# Altium schematic symbol library Power Module.SchLib: 57 symbols
Pins are listed as number, name and electrical type; pins without a type are passive.

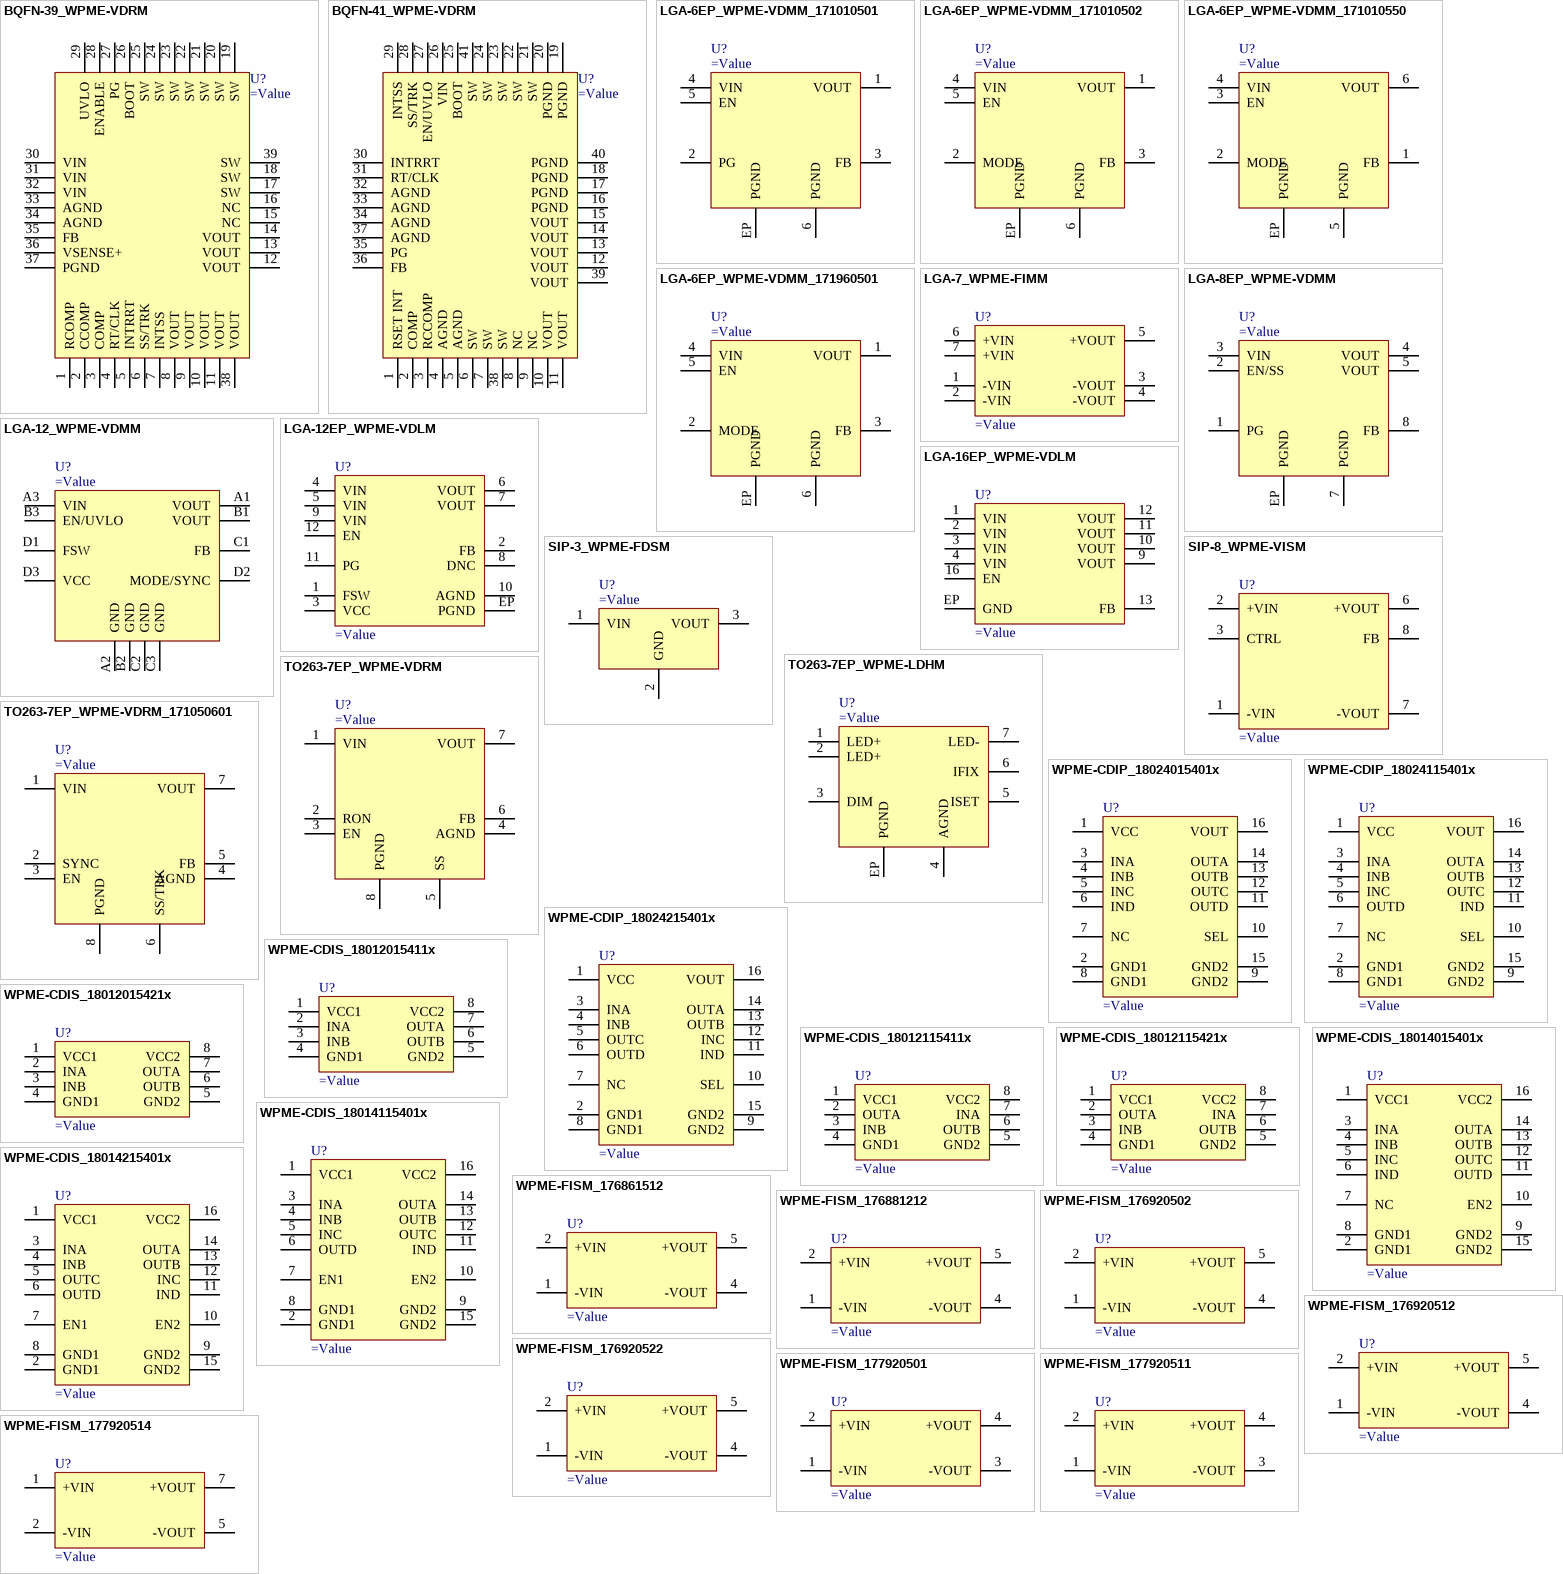
[diagram p0: symbols BQFN-39_WPME-VDRM to WPME-FISM_177920514]

## BQFN-39_WPME-VDRM
designator U?
pins: 1 RCOMP, 2 CCOMP, 3 COMP, 4 RT/CLK, 5 INTRRT, 6 SS/TRK, 7 INTSS, 8 VOUT, 9 VOUT, 10 VOUT, 11 VOUT, 12 VOUT, 13 VOUT, 14 VOUT, 15 NC, 16 NC, 17 SW, 18 SW, 19 SW, 20 SW, 21 SW, 22 SW, 23 SW, 24 SW, 25 SW, 26 BOOT, 27 PG, 28 ENABLE, 29 UVLO, 30 VIN, 31 VIN, 32 VIN, 33 AGND, 34 AGND, 35 FB, 36 VSENSE+, 37 PGND, 38 VOUT, 39 SW

## BQFN-41_WPME-VDRM
designator U?
pins: 1 RSET INT, 2 COMP, 3 RCCOMP, 4 AGND, 5 AGND, 6 SW, 7 SW, 8 NC, 9 NC, 10 VOUT, 11 VOUT, 12 VOUT, 13 VOUT, 14 VOUT, 15 VOUT, 16 PGND, 17 PGND, 18 PGND, 19 PGND, 20 PGND, 21 SW, 22 SW, 23 SW, 24 SW, 25 BOOT, 26 VIN, 27 EN/UVLO, 28 SS/TRK, 29 INTSS, 30 INTRRT, 31 RT/CLK, 32 AGND, 33 AGND, 34 AGND, 35 PG, 36 FB, 37 AGND, 38 SW, 39 VOUT, 40 PGND, 41 SW

## LGA-6EP_WPME-VDMM_171010501
designator U?
pins: 1 VOUT, 2 PG, 3 FB, 4 VIN, 5 EN, 6 PGND, EP PGND

## LGA-6EP_WPME-VDMM_171010502
designator U?
pins: 1 VOUT, 2 MODE, 3 FB, 4 VIN, 5 EN, 6 PGND, EP PGND

## LGA-6EP_WPME-VDMM_171010550
designator U?
pins: 1 FB, 2 MODE, 3 EN, 4 VIN, 5 PGND, 6 VOUT, EP PGND

## LGA-6EP_WPME-VDMM_171960501
designator U?
pins: 1 VOUT, 2 MODE, 3 FB, 4 VIN, 5 EN, 6 PGND, EP PGND

## LGA-7_WPME-FIMM
designator U?
pins: 1 -VIN, 2 -VIN, 3 -VOUT, 4 -VOUT, 5 +VOUT, 6 +VIN, 7 +VIN

## LGA-8EP_WPME-VDMM
designator U?
pins: 1 PG, 2 EN/SS, 3 VIN, 4 VOUT, 5 VOUT, 7 PGND, 8 FB, EP PGND

## LGA-12_WPME-VDMM
designator U?
pins: A1 VOUT, A2 GND, A3 VIN, B1 VOUT, B2 GND, B3 EN/UVLO, C1 FB, C2 GND, C3 GND, D1 FSW, D2 MODE/SYNC, D3 VCC

## LGA-12EP_WPME-VDLM
designator U?
pins: 1 FSW, 2 FB, 3 VCC, 4 VIN, 5 VIN, 6 VOUT, 7 VOUT, 8 DNC, 9 VIN, 10 AGND, 11 PG, 12 EN, EP PGND

## LGA-16EP_WPME-VDLM
designator U?
pins: 1 VIN, 2 VIN, 3 VIN, 4 VIN, 9 VOUT, 10 VOUT, 11 VOUT, 12 VOUT, 13 FB, 16 EN, EP GND

## SIP-3_WPME-FDSM
designator U?
pins: 1 VIN, 2 GND, 3 VOUT

## SIP-8_WPME-VISM
designator U?
pins: 1 -VIN, 2 +VIN, 3 CTRL, 6 +VOUT, 7 -VOUT, 8 FB

## TO263-7EP_WPME-LDHM
designator U?
pins: 1 LED+, 2 LED+, 3 DIM, 4 AGND, 5 ISET, 6 IFIX, 7 LED-, EP PGND

## TO263-7EP_WPME-VDRM
designator U?
pins: 1 VIN, 2 RON, 3 EN, 4 AGND, 5 SS, 6 FB, 7 VOUT, 8 PGND

## TO263-7EP_WPME-VDRM_171050601
designator U?
pins: 1 VIN, 2 SYNC, 3 EN, 4 AGND, 5 FB, 6 SS/TRK, 7 VOUT, 8 PGND

## WPME-CDIP_18024015401x
designator U?
pins: 1 VCC, 2 GND1, 3 INA, 4 INB, 5 INC, 6 IND, 7 NC, 8 GND1, 9 GND2, 10 SEL, 11 OUTD, 12 OUTC, 13 OUTB, 14 OUTA, 15 GND2, 16 VOUT

## WPME-CDIP_18024115401x
designator U?
pins: 1 VCC, 2 GND1, 3 INA, 4 INB, 5 INC, 6 OUTD, 7 NC, 8 GND1, 9 GND2, 10 SEL, 11 IND, 12 OUTC, 13 OUTB, 14 OUTA, 15 GND2, 16 VOUT

## WPME-CDIP_18024215401x
designator U?
pins: 1 VCC, 2 GND1, 3 INA, 4 INB, 5 OUTC, 6 OUTD, 7 NC, 8 GND1, 9 GND2, 10 SEL, 11 IND, 12 INC, 13 OUTB, 14 OUTA, 15 GND2, 16 VOUT

## WPME-CDIS_18012015411x
designator U?
pins: 1 VCC1, 2 INA, 3 INB, 4 GND1, 5 GND2, 6 OUTB, 7 OUTA, 8 VCC2

## WPME-CDIS_18012015421x
designator U?
pins: 1 VCC1, 2 INA, 3 INB, 4 GND1, 5 GND2, 6 OUTB, 7 OUTA, 8 VCC2

## WPME-CDIS_18012115411x
designator U?
pins: 1 VCC1, 2 OUTA, 3 INB, 4 GND1, 5 GND2, 6 OUTB, 7 INA, 8 VCC2

## WPME-CDIS_18012115421x
designator U?
pins: 1 VCC1, 2 OUTA, 3 INB, 4 GND1, 5 GND2, 6 OUTB, 7 INA, 8 VCC2

## WPME-CDIS_18014015401x
designator U?
pins: 1 VCC1, 2 GND1, 3 INA, 4 INB, 5 INC, 6 IND, 7 NC, 8 GND1, 9 GND2, 10 EN2, 11 OUTD, 12 OUTC, 13 OUTB, 14 OUTA, 15 GND2, 16 VCC2

## WPME-CDIS_18014115401x
designator U?
pins: 1 VCC1, 2 GND1, 3 INA, 4 INB, 5 INC, 6 OUTD, 7 EN1, 8 GND1, 9 GND2, 10 EN2, 11 IND, 12 OUTC, 13 OUTB, 14 OUTA, 15 GND2, 16 VCC2

## WPME-CDIS_18014215401x
designator U?
pins: 1 VCC1, 2 GND1, 3 INA, 4 INB, 5 OUTC, 6 OUTD, 7 EN1, 8 GND1, 9 GND2, 10 EN2, 11 IND, 12 INC, 13 OUTB, 14 OUTA, 15 GND2, 16 VCC2

## WPME-FISM_176861512
designator U?
pins: 1 -VIN, 2 +VIN, 4 -VOUT, 5 +VOUT

## WPME-FISM_176881212
designator U?
pins: 1 -VIN, 2 +VIN, 4 -VOUT, 5 +VOUT

## WPME-FISM_176920502
designator U?
pins: 1 -VIN, 2 +VIN, 4 -VOUT, 5 +VOUT

## WPME-FISM_176920512
designator U?
pins: 1 -VIN, 2 +VIN, 4 -VOUT, 5 +VOUT

## WPME-FISM_176920522
designator U?
pins: 1 -VIN, 2 +VIN, 4 -VOUT, 5 +VOUT

## WPME-FISM_177920501
designator U?
pins: 1 -VIN, 2 +VIN, 3 -VOUT, 4 +VOUT

## WPME-FISM_177920511
designator U?
pins: 1 -VIN, 2 +VIN, 3 -VOUT, 4 +VOUT

## WPME-FISM_177920514
designator U?
pins: 1 +VIN, 2 -VIN, 5 -VOUT, 7 +VOUT

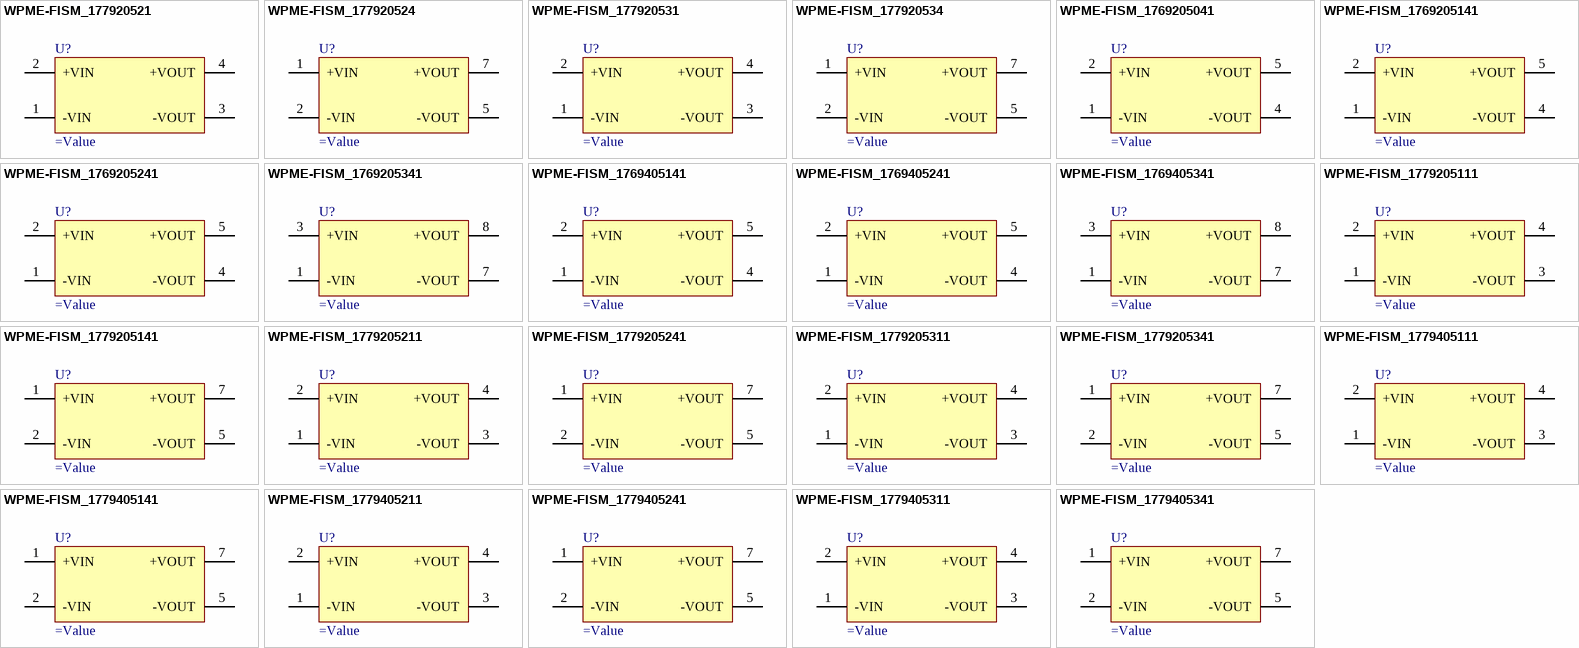
[diagram p1: symbols WPME-FISM_177920521 to WPME-FISM_1779405341]

## WPME-FISM_177920521
designator U?
pins: 1 -VIN, 2 +VIN, 3 -VOUT, 4 +VOUT

## WPME-FISM_177920524
designator U?
pins: 1 +VIN, 2 -VIN, 5 -VOUT, 7 +VOUT

## WPME-FISM_177920531
designator U?
pins: 1 -VIN, 2 +VIN, 3 -VOUT, 4 +VOUT

## WPME-FISM_177920534
designator U?
pins: 1 +VIN, 2 -VIN, 5 -VOUT, 7 +VOUT

## WPME-FISM_1769205041
designator U?
pins: 1 -VIN, 2 +VIN, 4 -VOUT, 5 +VOUT

## WPME-FISM_1769205141
designator U?
pins: 1 -VIN, 2 +VIN, 4 -VOUT, 5 +VOUT

## WPME-FISM_1769205241
designator U?
pins: 1 -VIN, 2 +VIN, 4 -VOUT, 5 +VOUT

## WPME-FISM_1769205341
designator U?
pins: 1 -VIN, 3 +VIN, 7 -VOUT, 8 +VOUT

## WPME-FISM_1769405141
designator U?
pins: 1 -VIN, 2 +VIN, 4 -VOUT, 5 +VOUT

## WPME-FISM_1769405241
designator U?
pins: 1 -VIN, 2 +VIN, 4 -VOUT, 5 +VOUT

## WPME-FISM_1769405341
designator U?
pins: 1 -VIN, 3 +VIN, 7 -VOUT, 8 +VOUT

## WPME-FISM_1779205111
designator U?
pins: 1 -VIN, 2 +VIN, 3 -VOUT, 4 +VOUT

## WPME-FISM_1779205141
designator U?
pins: 1 +VIN, 2 -VIN, 5 -VOUT, 7 +VOUT

## WPME-FISM_1779205211
designator U?
pins: 1 -VIN, 2 +VIN, 3 -VOUT, 4 +VOUT

## WPME-FISM_1779205241
designator U?
pins: 1 +VIN, 2 -VIN, 5 -VOUT, 7 +VOUT

## WPME-FISM_1779205311
designator U?
pins: 1 -VIN, 2 +VIN, 3 -VOUT, 4 +VOUT

## WPME-FISM_1779205341
designator U?
pins: 1 +VIN, 2 -VIN, 5 -VOUT, 7 +VOUT

## WPME-FISM_1779405111
designator U?
pins: 1 -VIN, 2 +VIN, 3 -VOUT, 4 +VOUT

## WPME-FISM_1779405141
designator U?
pins: 1 +VIN, 2 -VIN, 5 -VOUT, 7 +VOUT

## WPME-FISM_1779405211
designator U?
pins: 1 -VIN, 2 +VIN, 3 -VOUT, 4 +VOUT

## WPME-FISM_1779405241
designator U?
pins: 1 +VIN, 2 -VIN, 5 -VOUT, 7 +VOUT

## WPME-FISM_1779405311
designator U?
pins: 1 -VIN, 2 +VIN, 3 -VOUT, 4 +VOUT

## WPME-FISM_1779405341
designator U?
pins: 1 +VIN, 2 -VIN, 5 -VOUT, 7 +VOUT